# Altium footprint library nizn.PcbLib: 46 footprints (part 2 of 3)
Each footprint in its own frame and in the unit in brackets; x right, y up, seen from the top. Pads: shape width x height; smd on the part's side, far side on the other; paste and mask are expansions set on the pad; w line width, h text height; cw(c..) or ccw(c..) is an arc to the next point about the centre after c.
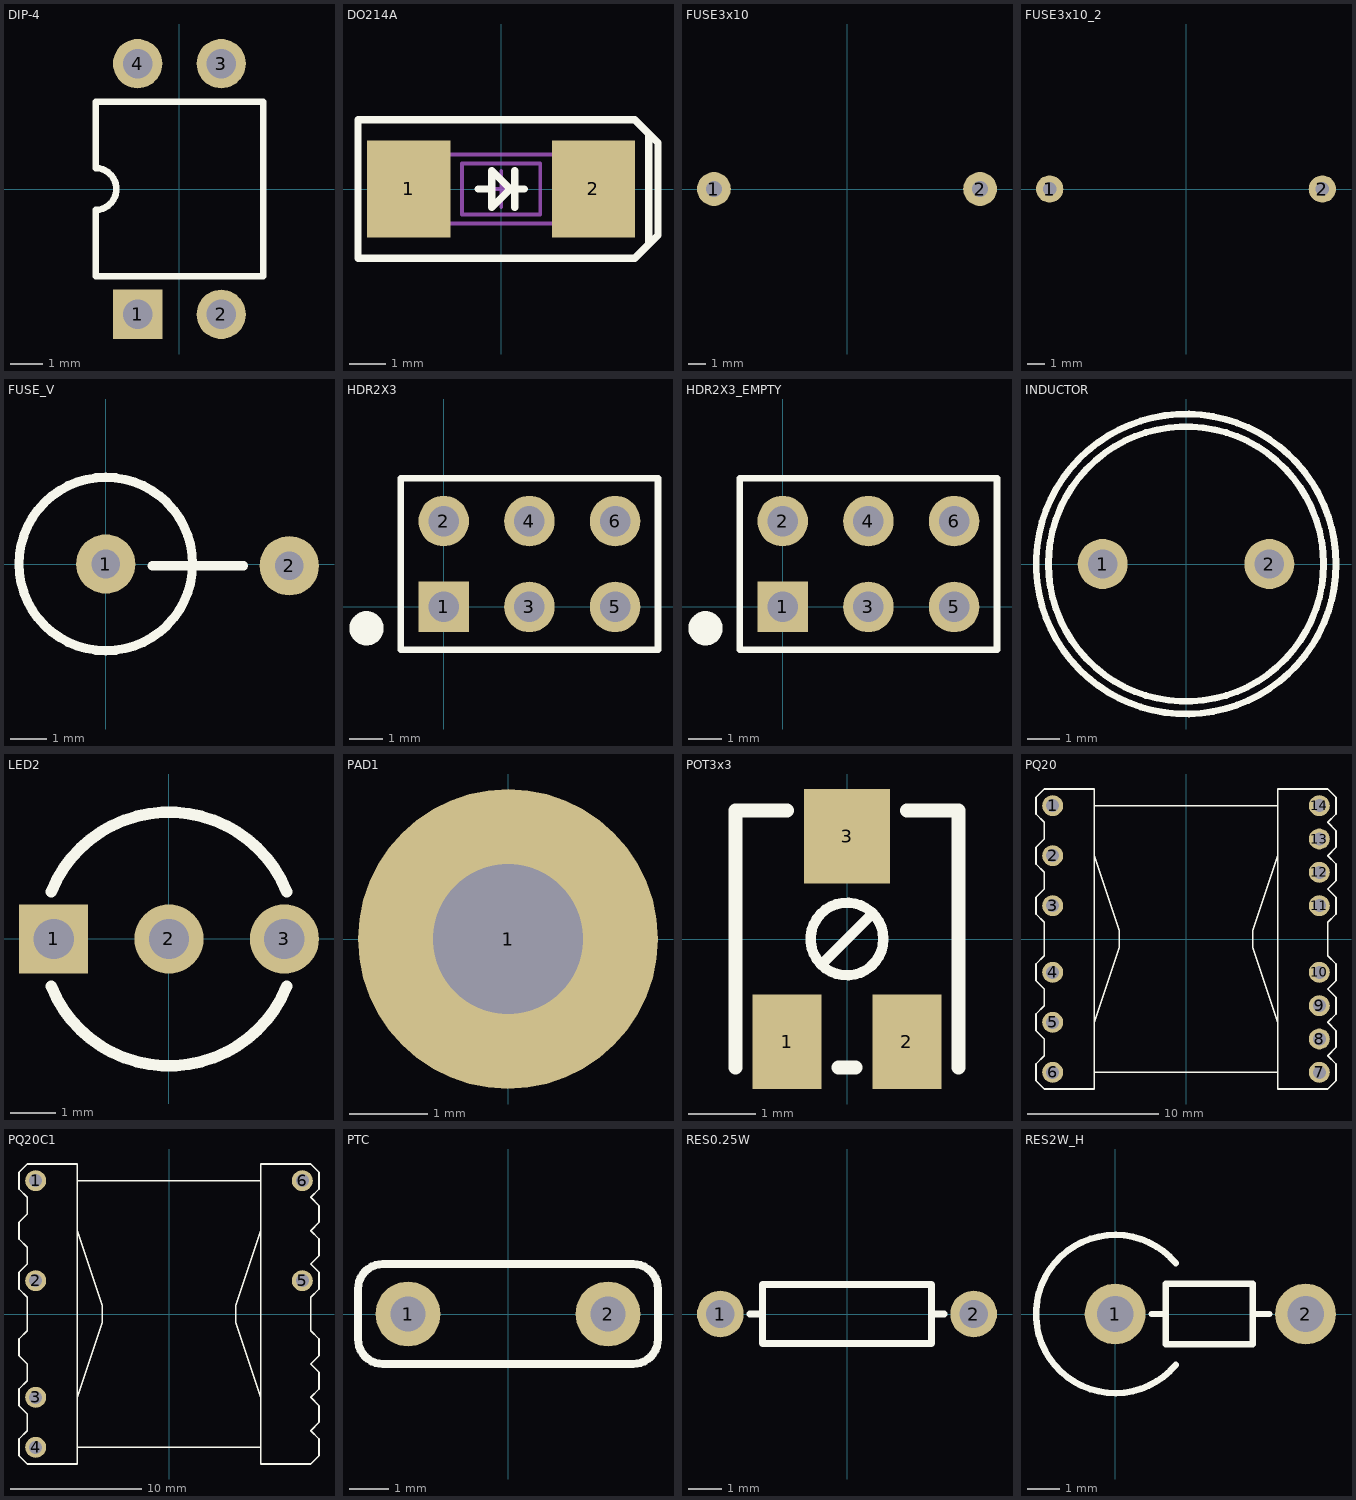
[diagram p1: the footprints below, top view; thin cyan lines are the x and y axes]

## DIP-4 [mm] "DIP; 4 Leads; Row Spacing 7.62 mm; Pitch 2.54 mm"
height 5.6
pads (4):
  rect 1.5x1.5 hole 0.9: 1(-1.27,-3.81)
  round 1.5 hole 0.9: 2(1.27,-3.81) 3(1.27,3.81) 4(-1.27,3.81)
Top Overlay:
  lines w0.2: -2.55,-2.65 2.55,-2.65 2.55,2.65 -2.55,2.65 -2.55,0.635 cw(c-2.55,0) -2.55,-0.635 -2.55,-2.65
3D body: height 5.58, standoff -2.01, extent -2.746,-3.937 2.794,4.063

## DO214A [mil]
height 30
pads (2):
  rect 90x105 smd: 1(-100,0) 2(100,0)
Top Overlay:
  lines w8: -25,0 -10,0 ; 15,-20 15,20 ; 15,0 25,0 ; 160,-60 145,-75 -155,-75 -155,75 145,75 160,60 ; 160,-60 170,-50 170,50 160,60 ; 160,-60 160,60 ; -10,-20 -10,20 10,0 -10,-20
Mechanical 13:
  lines w3.94: -42.32,-27.56 -42.32,27.56 42.32,27.56 42.32,-27.56 -42.32,-27.56
Mechanical 15:
  lines w3.94: -19.68,0 19.69,0 ; 0,-19.68 0,19.69 ; -68.9,-37.4 -68.9,37.4 68.9,37.4 68.9,-37.4 -68.9,-37.4
3D body: height 90, standoff 0, extent -108.01,-55 107.99,54.99

## FUSE3x10 [mil]
pads (2):
  round 75 hole 35: 1(-295,0) 2(295,0)
3D body: height 155.87, standoff -111.85, extent -317.33,-71.86 315.49,69.87

## FUSE3x10_2 [mil]
pads (2):
  round 60 hole 30: 1(-300,0) 2(300,0)
3D body: height 85, standoff 65, extent -309.89,-9.95 -289.99,9.96
3D body: height 85, standoff 65, extent 290.11,-9.95 310.01,9.96
3D body: height 84.98, standoff 65.02, extent 220,-9.95 300,9.97
3D body: height 130.89, standoff 19.11, extent -150,-55.76 150,55.8
3D body: height 77.99, standoff 72.01, extent -100,-2.99 100,2.99
3D body: height 136.88, standoff 13.12, extent 75,-61.72 200,61.8
3D body: height 136.88, standoff 13.12, extent -200,-61.72 -75,61.8
3D body: height 144.86, standoff 5.14, extent 135,-69.67 225,69.77
3D body: height 144.86, standoff 5.14, extent -225,-69.67 -135,69.78
3D body: height 50, standoff -30, extent 290.08,-9.97 310,9.99
3D body: height 50, standoff -30, extent -309.92,-9.97 -290,9.99
3D body: height 84.98, standoff 65.02, extent -300,-9.91 -220,10.01

## FUSE_V [mil]
height 590.55
pads (2):
  round 65 hole 31.5: 1(0,0) 2(200.91,-1.98)
Top Overlay:
  circle w10: c0,0 r95
  lines w10: 50.91,-1.98 150.91,-1.98
3D body: height 919, standoff 881, extent -18.8,-18.91 19,18.93
3D body: height 919, standoff 881, extent 182.11,-20.89 219.91,16.95
3D body: height 918.96, standoff 881.04, extent -1,-20 199,17.85
3D body: height 900, standoff 700, extent -20.37,-20.37 20.37,20.37
3D body: height 900, standoff -50, extent 180.54,-22.34 221.28,18.4
3D body: height 300, standoff -50, extent -20.37,-20.37 20.37,20.37
3D body: height 837.8, standoff 65, extent -100.79,-100.39 100,100.39

## HDR2X3 [mm] "Connector; Header; 3x2 Position"
height 5.08
pads (6):
  rect 1.5x1.5 hole 0.9: 1(0,0)
  round 1.5 hole 0.9: 2(0,2.54) 3(2.54,0) 4(2.54,2.54) 5(5.08,0) 6(5.08,2.54)
Top Overlay:
  circle w0.508: c-2.286,-0.635 r0.254
  lines w0.2: 1.482,-1.27 6.35,-1.27 ; 6.35,-1.27 -1.27,-1.27 -1.27,3.81 6.35,3.81 6.35,-1.27
3D body: height 8.79, standoff -2.75, extent -1.27,1.27 6.35,3.81
3D body: height 8.79, standoff -2.75, extent -1.27,-1.27 6.35,1.27

## HDR2X3_EMPTY [mm] "Connector; Header; 3x2 Position"
height 5.08
pads (6):
  rect 1.5x1.5 hole 0.9: 1(0,0)
  round 1.5 hole 0.9: 2(0,2.54) 3(2.54,0) 4(2.54,2.54) 5(5.08,0) 6(5.08,2.54)
Top Overlay:
  circle w0.508: c-2.286,-0.635 r0.254
  lines w0.2: 1.482,-1.27 6.35,-1.27 ; 6.35,-1.27 6.35,3.81 -1.27,3.81 -1.27,-1.27 6.35,-1.27

## INDUCTOR [mil]
pads (2):
  round 60 hole 35: 1(-100,0) 2(100,0)
Top Overlay:
  circle w8: c0,0 r180
  circle w7.87: c0,0 r165
3D body: height 400, standoff -170.87, extent -153.54,-155 153.54,152.08

## LED2 [mil]
height 200
pads (3):
  rect 60x60 hole 35: 1(-100,0)
  round 60 hole 35: 2(0,0) 3(100,0)
Top Overlay:
  lines w10: -102.13,-40.85 ccw(c0,0) 102.13,-40.85 ; -102.13,40.85 cw(c0,0) 102.13,40.85
3D body: height 464, standoff -65, extent -110,-115.97 116,115.99

## PAD1 [mil]
height 30
pads (1):
  round 150 hole 75: 1(0,0)

## POT3x3 [mil]
pads (3):
  rect 40x55 smd: 1(-35,-60) 2(35,-60)
  rect 50x55 smd: 3(0,60)
Top Overlay:
  circle w6: c0,0 r21.21
  lines w6: -15,-15 15,15
  lines w8: -65,-75 -65,75 -35,75 ; -5,-75 5,-75 ; 35,75 65,75 65,-75
3D body: height 76.77, standoff 0, extent -61.01,-72.83 61.03,72.45

## PQ20 [mm]
height 0.8
pads (14):
  round 1.6 hole 1: 1(-10.16,10.16) 2(-10.16,6.35) 3(-10.16,2.54) 4(-10.16,-2.54) 5(-10.16,-6.35) 6(-10.16,-10.16) 7(10.16,-10.16) 8(10.16,-7.62) 9(10.16,-5.08) 10(10.16,-2.54) 11(10.16,2.54) 12(10.16,5.08) 13(10.16,7.62) 14(10.16,10.16)
Top Overlay:
  lines w0.127: 6.984,-11.43 6.984,11.43 ; 6.985,-11.43 10.795,-11.43 11.43,-10.795 11.43,-9.525 10.795,-8.89 11.43,-8.255 11.43,-6.985 10.795,-6.35 11.43,-5.715 11.43,-4.445 10.795,-3.81 11.43,-3.175 11.43,-1.905 10.795,-1.27 10.795,1.27 11.43,1.905 11.43,3.175 10.795,3.81 11.43,4.445 11.43,5.715 10.795,6.35 11.43,6.985 11.43,8.255 10.795,8.89 11.43,9.525 11.43,10.795 10.795,11.43 6.985,11.43 ; -11.43,-10.795 -10.795,-11.43 -6.985,-11.43 -6.985,11.43 -10.795,11.43 -11.43,10.795 -11.43,9.525 -10.795,8.89 -10.795,7.62 -11.43,6.985 -11.43,5.715 -10.795,5.08 -10.795,3.81 -11.43,3.175 -11.43,1.905 -10.795,1.27 -10.795,-1.27 -11.43,-1.905 -11.43,-3.175 -10.795,-3.81 -10.795,-5.08 -11.43,-5.715 -11.43,-6.985 -10.795,-7.62 -10.795,-8.89 -11.43,-9.525 -11.43,-10.795 ; -6.985,-10.16 -6.985,-6.35 -5.08,-0.635 -5.08,0.635 -6.985,6.35 -6.985,10.16 6.985,10.16 6.985,6.35 5.08,0.635 5.08,-0.635 6.985,-6.35 6.985,-10.16 -6.985,-10.16
3D body: height 2.54, standoff -1.27, extent 9.902,4.822 10.418,5.338
3D body: height 2.54, standoff -1.27, extent 9.902,-7.878 10.418,-7.362
3D body: height 2.54, standoff -1.27, extent 9.902,-5.338 10.418,-4.822
3D body: height 2.54, standoff -1.27, extent 9.902,9.902 10.418,10.418
3D body: height 2.54, standoff -1.27, extent 9.902,7.362 10.418,7.878
3D body: height 2.54, standoff -1.27, extent -10.418,9.902 -9.902,10.418
3D body: height 2.54, standoff -1.27, extent 9.902,2.282 10.418,2.798
3D body: height 2.54, standoff -1.27, extent -10.418,6.092 -9.902,6.608
3D body: height 2.54, standoff -1.27, extent 9.902,-2.798 10.418,-2.282
3D body: height 2.54, standoff -1.27, extent 9.902,-10.418 10.418,-9.902
3D body: height 2.54, standoff -1.27, extent -10.418,-2.798 -9.902,-2.282
3D body: height 2.54, standoff -1.27, extent -10.418,2.282 -9.902,2.798
3D body: height 2.54, standoff -1.27, extent -10.418,-6.608 -9.902,-6.092
3D body: height 2.54, standoff -1.27, extent -10.418,-10.418 -9.902,-9.902
3D body: height 25.45, standoff 1.22, extent -3.174,-10.312 3.174,10.312
3D body: height 23.49, standoff 21.84, extent 3.809,-5.716 8.891,5.716
3D body: height 5.08, standoff 1.91, extent 6.984,-11.431 11.431,11.431
3D body: height 5.08, standoff 1.91, extent -11.431,-11.431 -6.984,11.431
3D body: height 21.59, standoff 5.71, extent -9.169,-9.169 9.169,9.169
3D body: height 25.4, standoff 1.27, extent -6.986,-10.161 6.986,10.161
3D body: height 23.49, standoff 21.84, extent -8.891,-5.716 -3.809,5.716

## PQ20C1 [mm]
height 0.8
pads (6):
  round 1.6 hole 1: 1(-10.16,10.16) 2(-10.16,2.54) 3(-10.16,-6.35) 4(-10.16,-10.16) 5(10.16,2.54) 6(10.16,10.16)
Top Overlay:
  lines w0.127: 6.984,-11.43 6.984,11.43 ; 6.985,-11.43 10.795,-11.43 11.43,-10.795 11.43,-9.525 10.795,-8.89 11.43,-8.255 11.43,-6.985 10.795,-6.35 11.43,-5.715 11.43,-4.445 10.795,-3.81 11.43,-3.175 11.43,-1.905 10.795,-1.27 10.795,1.27 11.43,1.905 11.43,3.175 10.795,3.81 11.43,4.445 11.43,5.715 10.795,6.35 11.43,6.985 11.43,8.255 10.795,8.89 11.43,9.525 11.43,10.795 10.795,11.43 6.985,11.43 ; -11.43,-10.795 -11.43,-9.525 -10.795,-8.89 -10.795,-7.62 -11.43,-6.985 -11.43,-5.715 -10.795,-5.08 -10.795,-3.81 -11.43,-3.175 -11.43,-1.905 -10.795,-1.27 -10.795,1.27 -11.43,1.905 -11.43,3.175 -10.795,3.81 -10.795,5.08 -11.43,5.715 -11.43,6.985 -10.795,7.62 -10.795,8.89 -11.43,9.525 -11.43,10.795 -10.795,11.43 -6.985,11.43 -6.985,-11.43 -10.795,-11.43 -11.43,-10.795 ; -6.985,-10.16 6.985,-10.16 6.985,-6.35 5.08,-0.635 5.08,0.635 6.985,6.35 6.985,10.16 -6.985,10.16 -6.985,6.35 -5.08,0.635 -5.08,-0.635 -6.985,-6.35 -6.985,-10.16
3D body: height 23.49, standoff 21.84, extent -8.891,-5.716 -3.809,5.716
3D body: height 25.4, standoff 1.27, extent -6.986,-10.161 6.986,10.161
3D body: height 21.59, standoff 5.71, extent -9.169,-9.169 9.169,9.169
3D body: height 5.08, standoff 1.91, extent -11.431,-11.431 -6.984,11.431
3D body: height 5.08, standoff 1.91, extent 6.984,-11.431 11.431,11.431
3D body: height 23.49, standoff 21.84, extent 3.809,-5.716 8.891,5.716
3D body: height 25.45, standoff 1.22, extent -3.174,-10.312 3.174,10.312
3D body: height 2.54, standoff -1.27, extent -10.418,-10.418 -9.902,-9.902
3D body: height 2.54, standoff -1.27, extent -10.418,-6.608 -9.902,-6.092
3D body: height 2.54, standoff -1.27, extent -10.418,2.282 -9.902,2.798
3D body: height 2.54, standoff -1.27, extent 9.902,2.282 10.418,2.798
3D body: height 2.54, standoff -1.27, extent -10.418,9.902 -9.902,10.418
3D body: height 2.54, standoff -1.27, extent 9.902,9.902 10.418,10.418

## PTC [mm]
height 6
pads (2):
  round 1.65 hole 0.889: 1(-2.54,0) 2(2.54,0)
Top Overlay:
  lines w0.2: -3.81,-0.635 -3.81,0.635 ; -3.175,-1.27 3.175,-1.27 ; -3.175,1.27 3.175,1.27 ; 3.81,-0.635 3.81,0.635
  lines w0.203: -3.81,-0.635 ccw(c-3.175,-0.635) -3.175,-1.27 ; -3.81,0.635 cw(c-3.175,0.635) -3.175,1.27 ; 3.175,-1.27 ccw(c3.175,-0.635) 3.81,-0.635 ; 3.175,1.27 cw(c3.175,0.635) 3.81,0.635
3D body: height 11.97, standoff -2.72, extent -3.957,-2.813 4.028,2.791

## RES0.25W [mm] "Resistor; 2 Leads"
height 1.524
pads (2):
  round 1.4 hole 0.85: 1(-3.81,0) 2(3.81,0)
Top Overlay:
  lines w0.2: -2.921,0 -2.54,0 ; 2.54,0 2.921,0 ; -2.54,-0.889 2.54,-0.889 2.54,0.889 -2.54,0.889 -2.54,-0.889
3D body: height 2.24, standoff -1.27, extent -4.064,-0.927 4.064,1.016

## RES2W_H [mil] "Resistor; 2 Leads"
height 60
pads (2):
  round 75 hole 45: 1(0,0) 2(235,0)
Top Overlay:
  lines w8: 45,0 62.5,0 ; 75,-62.5 cw(c0,0) 75,62.5 ; 170,0 190,0 ; 62.5,-37.5 62.5,37.5 170,37.5 170,-37.5 62.5,-37.5
3D body: height 794.78, standoff -126.48, extent -73.43,-98.42 237.6,98.43